# EAGLE library part HEADER_1X16 (library NFR)
1x16 Position Header
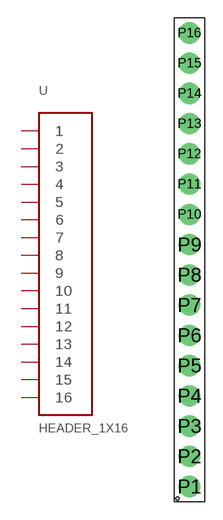
[diagram p3: symbol with the pads of HEADER_1X16; footprint HEADER_1X16]

Designator prefix -

## HEADER_1X16  [HEADER_1X16]
P1  1
P2  2
P3  3
P4  4
P5  5
P6  6
P7  7
P8  8
P9  9
P10  10
P11  11
P12  12
P13  13
P14  14
P15  15
P16  16

## Footprint HEADER_1X16 (pad centres in mm)
drill 1.016 pad 1.778: P1 0,0; P2 0,2.54; P3 0,5.08; P4 0,7.62; P5 0,10.16; P6 0,12.7; P7 0,15.24; P8 0,17.78; P9 0,20.32; P10 0,22.86; P11 0,25.4; P12 0,27.94; P13 0,30.48; P14 0,33.02; P15 0,35.56; P16 0,38.1